# EAGLE library part TLV62568 (library Custom_Library)
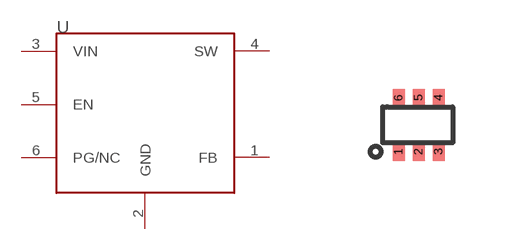
[diagram p34: symbol with the pads of SOT-563; footprint SOT-563]

Designator prefix U

## TLV62568  [SOT-563]
1  FB
2  GND
3  VIN
4  SW
5  EN
6  PG/NC

## Footprint SOT-563 (pad centres in mm)
smd 0.3 x 0.45: 1 -0.5,-0.675; 2 0,-0.675; 3 0.5,-0.675; 4 0.5,0.675; 5 0,0.675; 6 -0.5,0.675